# EAGLE library part OPA690 (library opamps)
OPA690: Wideband opamp with disable (Burr-Brown) ±5V, ±140mA, 9uA bias 4.5mV offset, 400MHz UGF, 6nV/rt(Hz) noise
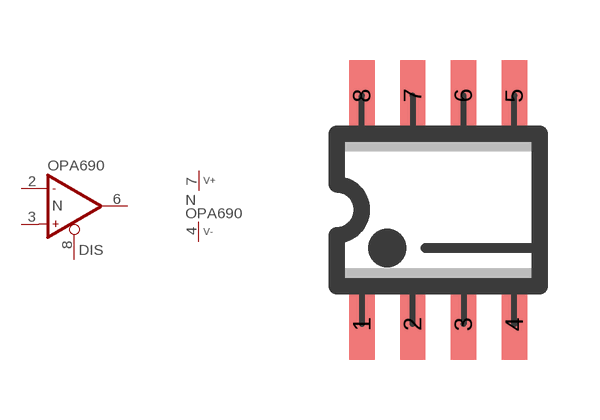
[diagram p228: symbol with the pads of SO08; footprint SO08]

Designator prefix N; gates A=OP_DIS P=V+-

## OPA690  [SO08]
2  A:IN-  in
3  A:IN+  in
4  P:V-  pwr
6  A:OUT  out
7  P:V+  pwr
8  A:DIS  in

## OPA690S  [SO08]
Pads as for SO08

## Footprint SO08 (pad centres in mm)
SO-8, SMD SOIC IC package, 8 pins
smd 0.635 x 1.778: 1 -1.905,-2.857; 2 -0.635,-2.857; 3 0.635,-2.857; 4 1.905,-2.857; 5 1.905,2.857; 6 0.635,2.857; 7 -0.635,2.857; 8 -1.905,2.857